# Altium footprint library AD7768.PcbLib: 1 footprints
Each footprint in its own frame and in the unit in brackets; x right, y up, seen from the top. Pads: shape width x height; smd on the part's side, far side on the other; paste and mask are expansions set on the pad; w line width, h text height; cw(c..) or ccw(c..) is an arc to the next point about the centre after c.
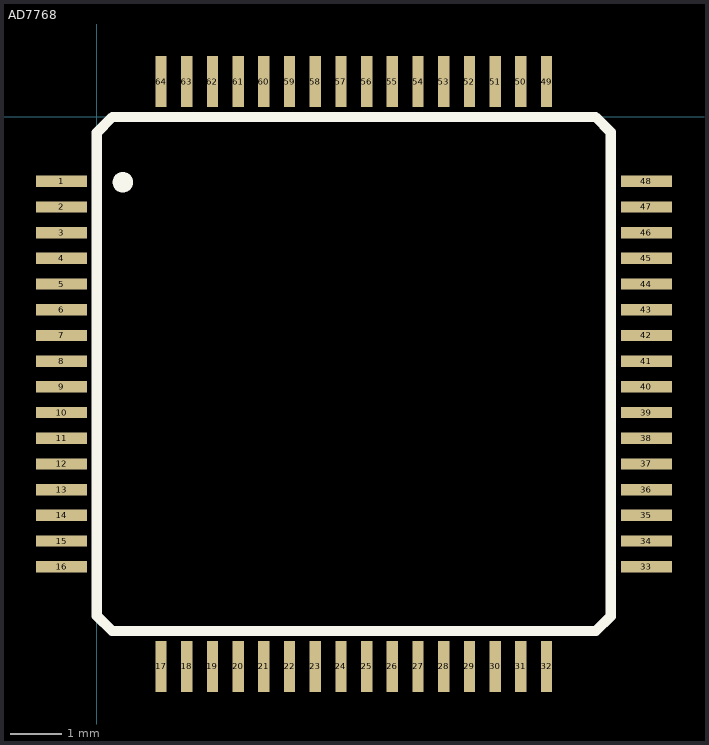
[diagram p0: the footprint, top view; thin cyan lines are the x and y axes]

## AD7768 [mm]
pads (64):
  rect 1x0.22 smd: 1(-0.686,-1.25) 2(-0.686,-1.75) 3(-0.686,-2.25) 4(-0.686,-2.75) 5(-0.686,-3.25) 6(-0.686,-3.75) 7(-0.686,-4.25) 8(-0.686,-4.75) 9(-0.686,-5.25) 10(-0.686,-5.75) 11(-0.686,-6.25) 12(-0.686,-6.75) 13(-0.686,-7.25) 14(-0.686,-7.75) 15(-0.686,-8.25) 16(-0.686,-8.75) 33(10.693,-8.75) 34(10.693,-8.25) 35(10.693,-7.75) 36(10.693,-7.25) 37(10.693,-6.75) 38(10.693,-6.25) 39(10.693,-5.75) 40(10.693,-5.25) 41(10.693,-4.75) 42(10.693,-4.25) 43(10.693,-3.75) 44(10.693,-3.25) 45(10.693,-2.75) 46(10.693,-2.25) 47(10.693,-1.75) 48(10.693,-1.25)
  rect 0.22x1 smd: 17(1.25,-10.69) 18(1.75,-10.69) 19(2.25,-10.69) 20(2.75,-10.69) 21(3.25,-10.69) 22(3.75,-10.69) 23(4.25,-10.69) 24(4.75,-10.69) 25(5.25,-10.69) 26(5.75,-10.69) 27(6.25,-10.69) 28(6.75,-10.69) 29(7.25,-10.69) 30(7.75,-10.69) 31(8.25,-10.69) 32(8.75,-10.69) 49(8.75,0.69) 50(8.25,0.69) 51(7.75,0.69) 52(7.25,0.69) 53(6.75,0.69) 54(6.25,0.69) 55(5.75,0.69) 56(5.25,0.69) 57(4.75,0.69) 58(4.25,0.69) 59(3.75,0.69) 60(3.25,0.69) 61(2.75,0.69) 62(2.25,0.69) 63(1.75,0.69) 64(1.25,0.69)
Top Overlay:
  circle w0.254: c0.508,-1.27 r0.072
  lines w0.2: 0,-9.703 0.297,-10 9.71,-10 10,-9.71 10,-0.297 9.703,0 0.305,0 0,-0.305 0,-9.703